# Altium footprint library Conn_Amphenol_D38999-26WD19SN_eec_0.PcbLib: 1 footprints
Each footprint in its own frame and in the unit in brackets; x right, y up, seen from the top. Pads: shape width x height; smd on the part's side, far side on the other; paste and mask are expansions set on the pad; w line width, h text height; cw(c..) or ccw(c..) is an arc to the next point about the centre after c.
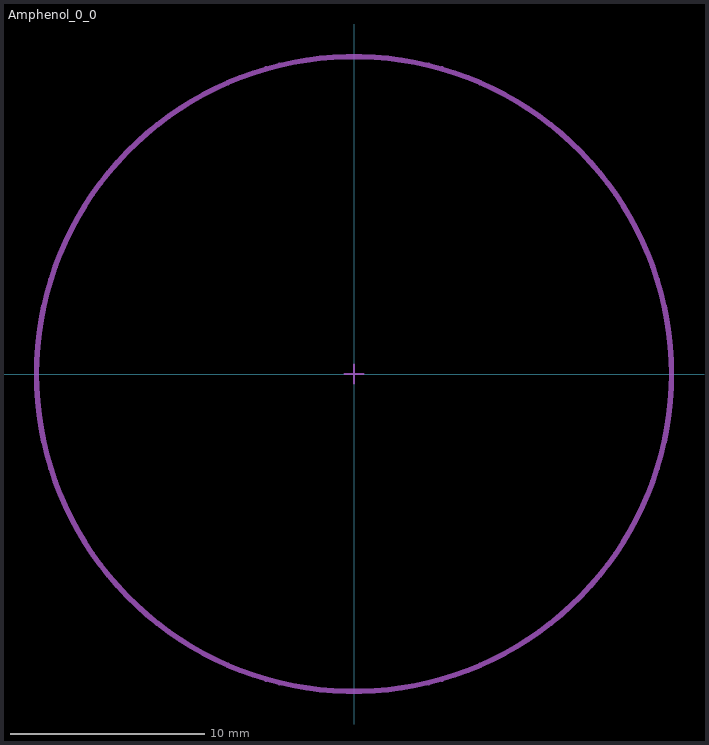
[diagram p0: the footprint, top view; thin cyan lines are the x and y axes]

## Amphenol_0_0 [mm]
Mechanical 12:
  circle w0.15: c0,0 r16.25
Mechanical 15:
  lines w0.1: -0.5,0 0.5,0 ; 0,-0.5 0,0.5
  lines w0.2: -16.35,0 cw(c0,0) 16.35,0 cw(c0,0) -16.35,0 ; -16.35,0 -16.35,0
3D body "Conn_Amphenol_D38999-26WD19SN_eec.STEP": height 0.25, standoff 0, extent -16.35,-16.35 16.35,16.35